# Altium footprint library SHEET25.PcbLib: 48 footprints (part 1 of 3)
Each footprint in its own frame and in the unit in brackets; x right, y up, seen from the top. Pads: shape width x height; smd on the part's side, far side on the other; paste and mask are expansions set on the pad; w line width, h text height; cw(c..) or ccw(c..) is an arc to the next point about the centre after c.
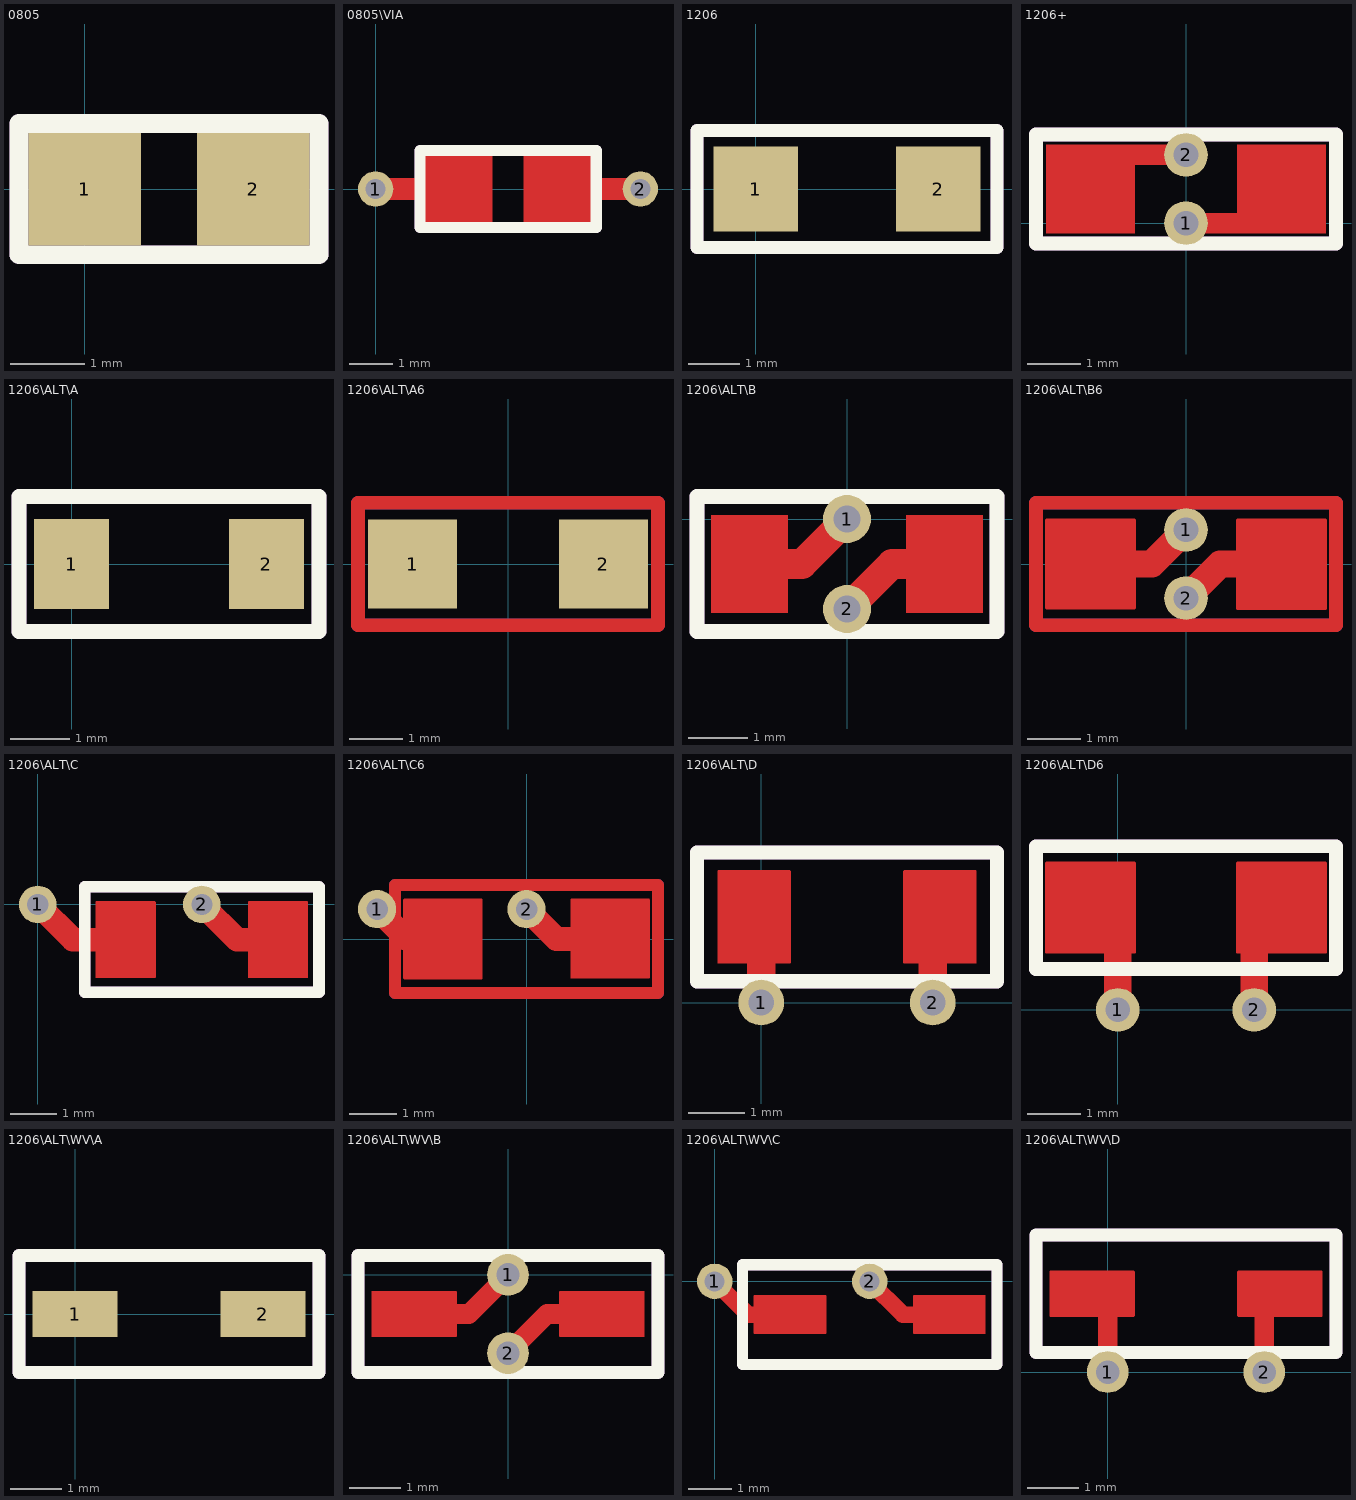
[diagram p0: the footprints below, top view; thin cyan lines are the x and y axes]

## 0805 [mil]
pads (2):
  rect 60x60 smd: 1(0,0) 2(90,0)
Top Overlay:
  lines w10: -35,-35 125,-35 125,35 -35,35 -35,-35
  text ".Designator" at -80,75 h60
Mechanical 1:
  lines w10: -35,-35 -35,35 125,35 125,-35 -35,-35
  text ".Designator" at -80,75 h60
  text ".Pattern" at -55,-175 h60

## 0805\VIA [mil]
pads (2):
  round 32 hole 18: 1(0,0) 2(240,0)
Top Layer:
  region: 105.38,30.38 105.54,30 105.54,-30 105.38,-30.38 105,-30.54 45,-30.54 44.62,-30.38 44.46,-30 44.46,30 44.62,30.38 45,30.54 105,30.54
  region: 195.38,30.38 195.54,30 195.54,-30 195.38,-30.38 195,-30.54 135,-30.54 134.62,-30.38 134.46,-30 134.46,30 134.62,30.38 135,30.54 195,30.54
  lines w20: 0,0 80,0 ; 160,0 240,0
Top Overlay:
  lines w10: 40,-35 40,35 200,35 200,-35 40,-35
  text ".Designator" at -30,50 h60
Top Paste:
  region: 105.38,30.38 105.54,30 105.54,-30 105.38,-30.38 105,-30.54 45,-30.54 44.62,-30.38 44.46,-30 44.46,30 44.62,30.38 45,30.54 105,30.54
  region: 195.38,30.38 195.54,30 195.54,-30 195.38,-30.38 195,-30.54 135,-30.54 134.62,-30.38 134.46,-30 134.46,30 134.62,30.38 135,30.54 195,30.54
Top Solder:
  region: 107.3,32.3 108.25,30 108.25,-30 107.3,-32.3 105,-33.25 45,-33.25 42.7,-32.3 41.75,-30 41.75,30 42.7,32.3 45,33.25 105,33.25
  region: 197.3,32.3 198.25,30 198.25,-30 197.3,-32.3 195,-33.25 135,-33.25 132.7,-32.3 131.75,-30 131.75,30 132.7,32.3 135,33.25 195,33.25
Mechanical 1:
  lines w10: 40,-35 40,35 200,35 200,-35 40,-35
  text ".Designator" at -30,50 h60
  text ".Pattern" at -30,-150 h60

## 1206 [mil]
pads (2):
  rect 65x65 smd: 1(0,0) 2(140,0)
Top Overlay:
  lines w10: -45,-45 185,-45 185,45 -45,45 -45,-45
  text ".Designator" at -125,100 h60
Mechanical 1:
  lines w10: -45,-45 185,-45 185,45 -45,45 -45,-45
  text ".Designator" at -125,100 h60
  text ".Pattern" at -30,-150 h60

## 1206+ [mil]
pads (2):
  round 32 hole 18: 1(0,0) 2(0,50)
Top Layer:
  region: -37.62,57.38 -37.46,57 -37.46,-7 -37.62,-7.38 -38,-7.54 -102,-7.54 -102.38,-7.38 -102.54,-7 -102.54,57 -102.38,57.38 -102,57.54 -38,57.54
  region: 102.38,57.38 102.54,57 102.54,-7 102.38,-7.38 102,-7.54 38,-7.54 37.62,-7.38 37.46,-7 37.46,57 37.62,57.38 38,57.54 102,57.54
  lines w15: -50,50 0,50 ; 0,0 50,0
Top Overlay:
  lines w10: -110,-15 -110,65 110,65 110,-15 -110,-15
  text ".Designator" at -55,50 h60
Top Paste:
  region: -37.62,57.38 -37.46,57 -37.46,-7 -37.62,-7.38 -38,-7.54 -102,-7.54 -102.38,-7.38 -102.54,-7 -102.54,57 -102.38,57.38 -102,57.54 -38,57.54
  region: 102.38,57.38 102.54,57 102.54,-7 102.38,-7.38 102,-7.54 38,-7.54 37.62,-7.38 37.46,-7 37.46,57 37.62,57.38 38,57.54 102,57.54
Top Solder:
  region: -35.7,59.3 -34.75,57 -34.75,-7 -35.7,-9.3 -38,-10.25 -102,-10.25 -104.3,-9.3 -105.25,-7 -105.25,57 -104.3,59.3 -102,60.25 -38,60.25
  region: 104.3,59.3 105.25,57 105.25,-7 104.3,-9.3 102,-10.25 38,-10.25 35.7,-9.3 34.75,-7 34.75,57 35.7,59.3 38,60.25 102,60.25
Mechanical 1:
  lines w10: -110,-15 -110,65 110,65 110,-15 -110,-15
  text ".Designator" at -55,50 h60
  text ".Pattern" at -125,-125 h60

## 1206\ALT\A [mil]
pads (2):
  rect 50x60 smd: 1(0,0) 2(130,0)
Top Overlay:
  lines w10: -35,-45 -35,45 165,45 165,-45 -35,-45
  text ".Designator" at -100,20 h60
Mechanical 1:
  lines w10: -35,-45 -35,45 165,45 165,-45 -35,-45
  text ".Designator" at -100,20 h60
  text ".Pattern" at -35,-150 h60

## 1206\ALT\A6 [mil]
pads (2):
  rect 65x65 smd: 1(-70,0) 2(70,0)
Top Layer:
  lines w10: -110,-45 -110,45 110,45 110,-45 -110,-45
Bottom Layer:
  lines w10: -110,-45 -110,45 110,45 110,-45 -110,-45
Top Overlay:
  text ".Designator" at -125,45 h60
Mechanical 1:
  text ".Designator" at -125,45 h60

## 1206\ALT\B [mil]
pads (2):
  round 32 hole 18: 1(0,0) 2(0,-60)
Top Layer:
  region: -39.62,2.38 -39.46,2 -39.46,-62 -39.62,-62.38 -40,-62.54 -90,-62.54 -90.38,-62.38 -90.54,-62 -90.54,2 -90.38,2.38 -90,2.54 -40,2.54
  region: 90.38,2.38 90.54,2 90.54,-62 90.38,-62.38 90,-62.54 40,-62.54 39.62,-62.38 39.46,-62 39.46,2 39.62,2.38 40,2.54 90,2.54
  lines w20: -70,-30 -30,-30 0,0 ; 0,-60 30,-30 70,-30
Top Overlay:
  lines w10: -100,-75 -100,15 100,15 100,-75 -100,-75
  text ".Designator" at -35,45 h60
Top Paste:
  region: -39.62,2.38 -39.46,2 -39.46,-62 -39.62,-62.38 -40,-62.54 -90,-62.54 -90.38,-62.38 -90.54,-62 -90.54,2 -90.38,2.38 -90,2.54 -40,2.54
  region: 90.38,2.38 90.54,2 90.54,-62 90.38,-62.38 90,-62.54 40,-62.54 39.62,-62.38 39.46,-62 39.46,2 39.62,2.38 40,2.54 90,2.54
Top Solder:
  region: -37.7,4.3 -36.75,2 -36.75,-62 -37.7,-64.3 -40,-65.25 -90,-65.25 -92.3,-64.3 -93.25,-62 -93.25,2 -92.3,4.3 -90,5.25 -40,5.25
  region: 92.3,4.3 93.25,2 93.25,-62 92.3,-64.3 90,-65.25 40,-65.25 37.7,-64.3 36.75,-62 36.75,2 37.7,4.3 40,5.25 90,5.25
Mechanical 1:
  lines w10: -100,-75 -100,15 100,15 100,-75 -100,-75
  text ".Designator" at -35,45 h60
  text ".Pattern" at -125,-180 h60

## 1206\ALT\B6 [mil]
pads (2):
  round 32 hole 18: 1(0,25) 2(0,-25)
Top Layer:
  region: 102.88,32.88 103.04,32.5 103.04,-33 102.88,-33.38 102.5,-33.54 37.5,-33.54 37.12,-33.38 36.96,-33 36.96,32.5 37.12,32.88 37.5,33.04 102.5,33.04
  region: -37.12,32.88 -36.96,32.5 -36.96,-32.5 -37.12,-32.88 -37.5,-33.04 -102.5,-33.04 -102.88,-32.88 -103.04,-32.5 -103.04,32.5 -102.88,32.88 -102.5,33.04 -37.5,33.04
  lines w10: -110,-45 -110,45 110,45 110,-45 -110,-45
  lines w20: -50,0 -25,0 0,25 ; 0,-25 25,0 50,0
Bottom Layer:
  lines w10: -110,-45 -110,45 110,45 110,-45 -110,-45
Top Overlay:
  text ".Designator" at -10,45 h60
Top Paste:
  region: 102.88,32.88 103.04,32.5 103.04,-33 102.88,-33.38 102.5,-33.54 37.5,-33.54 37.12,-33.38 36.96,-33 36.96,32.5 37.12,32.88 37.5,33.04 102.5,33.04
  region: -37.12,32.88 -36.96,32.5 -36.96,-32.5 -37.12,-32.88 -37.5,-33.04 -102.5,-33.04 -102.88,-32.88 -103.04,-32.5 -103.04,32.5 -102.88,32.88 -102.5,33.04 -37.5,33.04
Top Solder:
  region: 104.8,34.8 105.75,32.5 105.75,-33 104.8,-35.3 102.5,-36.25 37.5,-36.25 35.2,-35.3 34.25,-33 34.25,32.5 35.2,34.8 37.5,35.75 102.5,35.75
  region: -35.2,34.8 -34.25,32.5 -34.25,-32.5 -35.2,-34.8 -37.5,-35.75 -102.5,-35.75 -104.8,-34.8 -105.75,-32.5 -105.75,32.5 -104.8,34.8 -102.5,35.75 -37.5,35.75
Mechanical 1:
  text ".Designator" at -10,45 h60

## 1206\ALT\C [mil]
pads (2):
  round 32 hole 18: 1(0,0) 2(140,0)
Top Layer:
  region: 100.38,2.38 100.54,2 100.54,-62 100.38,-62.38 100,-62.54 50,-62.54 49.62,-62.38 49.46,-62 49.46,2 49.62,2.38 50,2.54 100,2.54
  region: 230.38,2.38 230.54,2 230.54,-62 230.38,-62.38 230,-62.54 180,-62.54 179.62,-62.38 179.46,-62 179.46,2 179.62,2.38 180,2.54 230,2.54
  lines w20: 0,0 30,-30 70,-30 ; 140,0 170,-30 210,-30
Top Overlay:
  lines w10: 40,-75 40,15 240,15 240,-75 40,-75
  text ".Designator" at -75,150 h60
Top Paste:
  region: 100.38,2.38 100.54,2 100.54,-62 100.38,-62.38 100,-62.54 50,-62.54 49.62,-62.38 49.46,-62 49.46,2 49.62,2.38 50,2.54 100,2.54
  region: 230.38,2.38 230.54,2 230.54,-62 230.38,-62.38 230,-62.54 180,-62.54 179.62,-62.38 179.46,-62 179.46,2 179.62,2.38 180,2.54 230,2.54
Top Solder:
  region: 102.3,4.3 103.25,2 103.25,-62 102.3,-64.3 100,-65.25 50,-65.25 47.7,-64.3 46.75,-62 46.75,2 47.7,4.3 50,5.25 100,5.25
  region: 232.3,4.3 233.25,2 233.25,-62 232.3,-64.3 230,-65.25 180,-65.25 177.7,-64.3 176.75,-62 176.75,2 177.7,4.3 180,5.25 230,5.25
Mechanical 1:
  lines w10: 40,-75 40,15 240,15 240,-75 40,-75
  text ".Designator" at -75,150 h60
  text ".Pattern" at -35,-180 h60

## 1206\ALT\C6 [mil]
pads (2):
  round 32 hole 18: 1(-125,25) 2(0,25)
Top Layer:
  region: -37.12,33.38 -36.96,33 -36.96,-33 -37.12,-33.38 -37.5,-33.54 -102.5,-33.54 -102.88,-33.38 -103.04,-33 -103.04,33 -102.88,33.38 -102.5,33.54 -37.5,33.54
  region: 102.88,33.38 103.04,33 103.04,-32.5 102.88,-32.88 102.5,-33.04 37.5,-33.04 37.12,-32.88 36.96,-32.5 36.96,33 37.12,33.38 37.5,33.54 102.5,33.54
  lines w10: -110,-45 -110,45 110,45 110,-45 -110,-45
  lines w20: -125,25 -100,0 -75,0 ; 0,25 25,0 50,0
Bottom Layer:
  lines w10: -110,-45 -110,45 110,45 110,-45 -110,-45
Top Overlay:
  text ".Designator" at -65,135 h60
Top Paste:
  region: -37.12,33.38 -36.96,33 -36.96,-33 -37.12,-33.38 -37.5,-33.54 -102.5,-33.54 -102.88,-33.38 -103.04,-33 -103.04,33 -102.88,33.38 -102.5,33.54 -37.5,33.54
  region: 102.88,33.38 103.04,33 103.04,-32.5 102.88,-32.88 102.5,-33.04 37.5,-33.04 37.12,-32.88 36.96,-32.5 36.96,33 37.12,33.38 37.5,33.54 102.5,33.54
Top Solder:
  region: -35.2,35.3 -34.25,33 -34.25,-33 -35.2,-35.3 -37.5,-36.25 -102.5,-36.25 -104.8,-35.3 -105.75,-33 -105.75,33 -104.8,35.3 -102.5,36.25 -37.5,36.25
  region: 104.8,35.3 105.75,33 105.75,-32.5 104.8,-34.8 102.5,-35.75 37.5,-35.75 35.2,-34.8 34.25,-32.5 34.25,33 35.2,35.3 37.5,36.25 102.5,36.25
Mechanical 1:
  text ".Designator" at -65,135 h60

## 1206\ALT\D [mil]
pads (2):
  round 32 hole 18: 1(0,0) 2(120,0)
Top Layer:
  region: 150.38,92.38 150.54,92 150.54,28 150.38,27.62 150,27.46 100,27.46 99.62,27.62 99.46,28 99.46,92 99.62,92.38 100,92.54 150,92.54
  region: 20.38,92.38 20.54,92 20.54,28 20.38,27.62 20,27.46 -30,27.46 -30.38,27.62 -30.54,28 -30.54,92 -30.38,92.38 -30,92.54 20,92.54
  lines w20: -10,60 0,60 0,0 ; 120,0 120,60 130,60
Top Overlay:
  lines w10: -45,15 165,15 165,105 -45,105 -45,15
  text ".Designator" at -65,135 h60
Top Paste:
  region: 150.38,92.38 150.54,92 150.54,28 150.38,27.62 150,27.46 100,27.46 99.62,27.62 99.46,28 99.46,92 99.62,92.38 100,92.54 150,92.54
  region: 20.38,92.38 20.54,92 20.54,28 20.38,27.62 20,27.46 -30,27.46 -30.38,27.62 -30.54,28 -30.54,92 -30.38,92.38 -30,92.54 20,92.54
Top Solder:
  region: 152.3,94.3 153.25,92 153.25,28 152.3,25.7 150,24.75 100,24.75 97.7,25.7 96.75,28 96.75,92 97.7,94.3 100,95.25 150,95.25
  region: 22.3,94.3 23.25,92 23.25,28 22.3,25.7 20,24.75 -30,24.75 -32.3,25.7 -33.25,28 -33.25,92 -32.3,94.3 -30,95.25 20,95.25
Mechanical 1:
  lines w10: -45,15 -45,105 165,105 165,15 -45,15
  text ".Designator" at -65,135 h60
  text ".Pattern" at -65,-140 h60

## 1206\ALT\D6 [mil]
pads (2):
  round 32 hole 18: 1(0,0) 2(100,0)
Top Layer:
  region: 12.88,108.38 13.04,108 13.04,42 12.88,41.62 12.5,41.46 -52.5,41.46 -52.88,41.62 -53.04,42 -53.04,108 -52.88,108.38 -52.5,108.54 12.5,108.54
  region: 152.88,108.38 153.04,108 153.04,42 152.88,41.62 152.5,41.46 87.5,41.46 87.12,41.62 86.96,42 86.96,108 87.12,108.38 87.5,108.54 152.5,108.54
  lines w20: 0,0 0,75 ; 100,0 100,75
Top Overlay:
  lines w10: -60,30 160,30 160,120 -60,120 -60,30
Top Paste:
  region: 12.88,108.38 13.04,108 13.04,42 12.88,41.62 12.5,41.46 -52.5,41.46 -52.88,41.62 -53.04,42 -53.04,108 -52.88,108.38 -52.5,108.54 12.5,108.54
  region: 152.88,108.38 153.04,108 153.04,42 152.88,41.62 152.5,41.46 87.5,41.46 87.12,41.62 86.96,42 86.96,108 87.12,108.38 87.5,108.54 152.5,108.54
Top Solder:
  region: 14.8,110.3 15.75,108 15.75,42 14.8,39.7 12.5,38.75 -52.5,38.75 -54.8,39.7 -55.75,42 -55.75,108 -54.8,110.3 -52.5,111.25 12.5,111.25
  region: 154.8,110.3 155.75,108 155.75,42 154.8,39.7 152.5,38.75 87.5,38.75 85.2,39.7 84.25,42 84.25,108 85.2,110.3 87.5,111.25 152.5,111.25
Mechanical 1:
  lines w10: -60,30 -60,120 160,120 160,30 -60,30
  text ".Pattern" at -75,-125 h60

## 1206\ALT\WV\A [mil]
pads (2):
  rect 65x35 smd: 1(0,0) 2(144,0)
Top Overlay:
  lines w10: -43,-45 -43,45 187,45 187,-45 -43,-45
  text ".Designator" at -125,80 h60
Mechanical 1:
  lines w10: -43,-45 187,-45 187,45 -43,45 -43,-45
  text ".Pattern" at -53,-150 h60
  text ".Designator" at -125,80 h60

## 1206\ALT\WV\B [mil]
pads (2):
  round 32 hole 18: 1(0,0) 2(0,-60)
Top Layer:
  region: -39.62,-12.62 -39.46,-13 -39.46,-47 -39.62,-47.38 -40,-47.54 -104,-47.54 -104.38,-47.38 -104.54,-47 -104.54,-13 -104.38,-12.62 -104,-12.46 -40,-12.46
  region: 104.38,-12.62 104.54,-13 104.54,-47 104.38,-47.38 104,-47.54 40,-47.54 39.62,-47.38 39.46,-47 39.46,-13 39.62,-12.62 40,-12.46 104,-12.46
  lines w15: -70,-30 -30,-30 0,0 ; 0,-60 30,-30 70,-30
Top Overlay:
  lines w10: -115,-75 -115,15 115,15 115,-75 -115,-75
  text ".Designator" at -55,100 h60
Top Paste:
  region: -39.62,-12.62 -39.46,-13 -39.46,-47 -39.62,-47.38 -40,-47.54 -104,-47.54 -104.38,-47.38 -104.54,-47 -104.54,-13 -104.38,-12.62 -104,-12.46 -40,-12.46
  region: 104.38,-12.62 104.54,-13 104.54,-47 104.38,-47.38 104,-47.54 40,-47.54 39.62,-47.38 39.46,-47 39.46,-13 39.62,-12.62 40,-12.46 104,-12.46
Top Solder:
  region: -37.7,-10.7 -36.75,-13 -36.75,-47 -37.7,-49.3 -40,-50.25 -104,-50.25 -106.3,-49.3 -107.25,-47 -107.25,-13 -106.3,-10.7 -104,-9.75 -40,-9.75
  region: 106.3,-10.7 107.25,-13 107.25,-47 106.3,-49.3 104,-50.25 40,-50.25 37.7,-49.3 36.75,-47 36.75,-13 37.7,-10.7 40,-9.75 104,-9.75
Mechanical 1:
  lines w10: -115,-75 -115,15 115,15 115,-75 -115,-75
  text ".Designator" at -55,100 h60
  text ".Pattern" at -125,-180 h60

## 1206\ALT\WV\C [mil]
pads (2):
  round 32 hole 18: 1(0,0) 2(140,0)
Top Layer:
  region: 244.38,-12.62 244.54,-13 244.54,-47 244.38,-47.38 244,-47.54 180,-47.54 179.62,-47.38 179.46,-47 179.46,-13 179.62,-12.62 180,-12.46 244,-12.46
  region: 100.38,-12.62 100.54,-13 100.54,-47 100.38,-47.38 100,-47.54 36,-47.54 35.62,-47.38 35.46,-47 35.46,-13 35.62,-12.62 36,-12.46 100,-12.46
  lines w15: 0,0 30,-30 70,-30 ; 140,0 170,-30 210,-30
Top Overlay:
  lines w10: 25,-75 255,-75 255,15 25,15 25,-75
  text ".Designator" at -125,100 h60
Top Paste:
  region: 244.38,-12.62 244.54,-13 244.54,-47 244.38,-47.38 244,-47.54 180,-47.54 179.62,-47.38 179.46,-47 179.46,-13 179.62,-12.62 180,-12.46 244,-12.46
  region: 100.38,-12.62 100.54,-13 100.54,-47 100.38,-47.38 100,-47.54 36,-47.54 35.62,-47.38 35.46,-47 35.46,-13 35.62,-12.62 36,-12.46 100,-12.46
Top Solder:
  region: 246.3,-10.7 247.25,-13 247.25,-47 246.3,-49.3 244,-50.25 180,-50.25 177.7,-49.3 176.75,-47 176.75,-13 177.7,-10.7 180,-9.75 244,-9.75
  region: 102.3,-10.7 103.25,-13 103.25,-47 102.3,-49.3 100,-50.25 36,-50.25 33.7,-49.3 32.75,-47 32.75,-13 33.7,-10.7 36,-9.75 100,-9.75
Mechanical 1:
  lines w10: 25,-75 255,-75 255,15 25,15 25,-75
  text ".Designator" at -125,100 h60
  text ".Pattern" at -10,-180 h60

## 1206\ALT\WV\D [mil]
pads (2):
  round 32 hole 18: 1(0,0) 2(120,0)
Top Layer:
  region: 164.38,77.38 164.54,77 164.54,43 164.38,42.62 164,42.46 100,42.46 99.62,42.62 99.46,43 99.46,77 99.62,77.38 100,77.54 164,77.54
  region: 20.38,77.38 20.54,77 20.54,43 20.38,42.62 20,42.46 -44,42.46 -44.38,42.62 -44.54,43 -44.54,77 -44.38,77.38 -44,77.54 20,77.54
  lines w15: -10,60 0,60 0,0 ; 120,0 120,60 130,60
Top Overlay:
  lines w10: -55,15 -55,105 175,105 175,15 -55,15
  text ".Designator" at -25,75 h60
Top Paste:
  region: 164.38,77.38 164.54,77 164.54,43 164.38,42.62 164,42.46 100,42.46 99.62,42.62 99.46,43 99.46,77 99.62,77.38 100,77.54 164,77.54
  region: 20.38,77.38 20.54,77 20.54,43 20.38,42.62 20,42.46 -44,42.46 -44.38,42.62 -44.54,43 -44.54,77 -44.38,77.38 -44,77.54 20,77.54
Top Solder:
  region: 166.3,79.3 167.25,77 167.25,43 166.3,40.7 164,39.75 100,39.75 97.7,40.7 96.75,43 96.75,77 97.7,79.3 100,80.25 164,80.25
  region: 22.3,79.3 23.25,77 23.25,43 22.3,40.7 20,39.75 -44,39.75 -46.3,40.7 -47.25,43 -47.25,77 -46.3,79.3 -44,80.25 20,80.25
Mechanical 1:
  lines w10: -55,15 -55,105 175,105 175,15 -55,15
  text ".Designator" at -25,75 h60
  text ".Pattern" at -65,-140 h60